# Altium schematic symbol library MCP1792.Schlib: 1 symbol
Pins are listed as number, name and electrical type; pins without a type are passive.

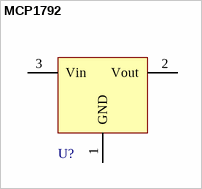
[diagram p0: symbol MCP1792]

## MCP1792
designator U?
55V input, 0.1Amp Linear Voltage Regulator
pins: 1 GND (power), 2 Vout (power), 3 Vin (power)